# Altium schematic symbol library IND.SchLib: 4 symbols
Pins are listed as number, name and electrical type; pins without a type are passive.

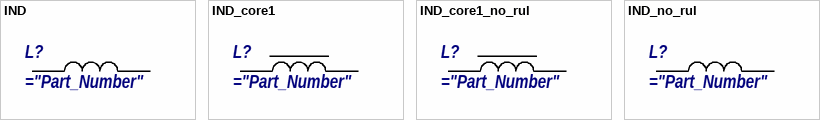
[diagram p0: symbols IND to IND_no_rul]

## IND
designator L?
="Purchase"; Rule: UNIONINDEX=0|RULEKIND=SMDNeckDown|NETSCOPE=AnyNet|LAYERKIND=SameLayer|NAME=Schematic SMD Neck-Down Constraint|PERCENT=50.000|UNIT=Metric
simulation model L_Inductor_Default (Model Description)
pins: 1, 2

## IND_core1
designator L?
="Purchase"; Rule: UNIONINDEX=0|RULEKIND=SMDNeckDown|NETSCOPE=AnyNet|LAYERKIND=SameLayer|NAME=Schematic SMD Neck-Down Constraint|PERCENT=50.000|UNIT=Metric
simulation model L_Inductor_Default (Model Description)
pins: 1, 2

## IND_core1_no_rul
designator L?
="Purchase"; Rule: UNIONINDEX=0|RULEKIND=SMDNeckDown|NETSCOPE=AnyNet|LAYERKIND=SameLayer|NAME=Schematic SMD Neck-Down Constraint|PERCENT=50.000|UNIT=Metric
simulation model L_Inductor_Default (Model Description)
pins: 1, 2

## IND_no_rul
designator L?
="Purchase"
simulation model L_Inductor_Default (Model Description)
pins: 1, 2